# EAGLE library part MI-AIM (library vicor)
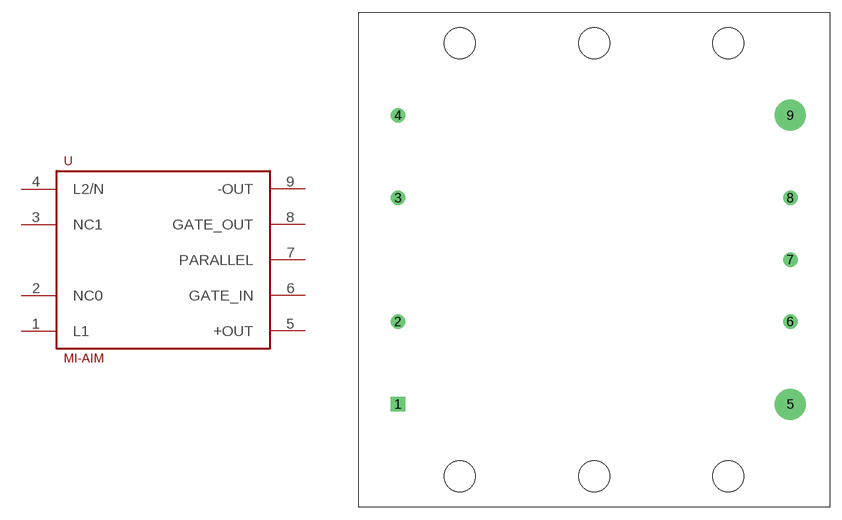
[diagram p0: symbol with the pads of 1_4_BRICK; footprint 1_4_BRICK]

Designator prefix -

## MI-AIM  [1_4_BRICK]
1  L1
2  NC0
3  NC1
4  L2/N
5  +OUT
6  GATE_IN
7  PARALLEL
8  GATE_OUT
9  -OUT

## Footprint 1_4_BRICK (pad centres in mm)
drill 1.016 pad 1.778 square: 1 0,0
drill 1.016 pad 1.778: 2 0,10.16; 3 0,25.4; 4 0,35.56; 6 48.26,10.16; 7 48.26,17.78; 8 48.26,25.4
drill 2.032 pad 3.81: 5 48.26,0; 9 48.26,35.56
hole 3.81 at 7.62,-8.89
hole 3.81 at 24.13,-8.89
hole 3.81 at 40.64,-8.89
hole 3.81 at 40.64,44.45
hole 3.81 at 24.13,44.45
hole 3.81 at 7.62,44.45